# Altium schematic symbol library MSE450_G05_ASTEROIDS.SchLib: 3 symbols
Pins are listed as number, name and electrical type; pins without a type are passive.

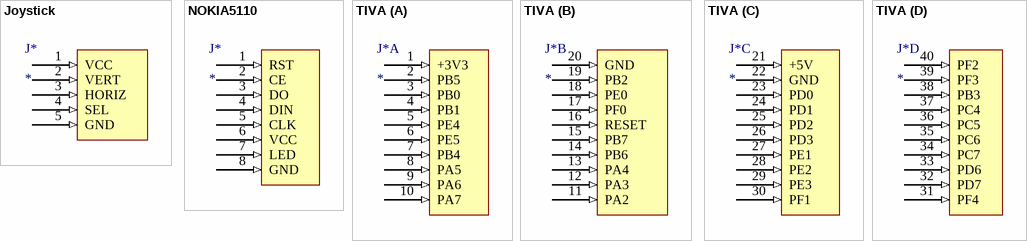
[diagram p0: symbols Joystick to TIVA]

## Joystick
designator J*
footprint joystick
pins: 1 VCC (in), 2 VERT (in), 3 HORIZ (in), 4 SEL (in), 5 GND (in)

## NOKIA5110
designator J*
footprint NOKIA5110
pins: 1 RST (in), 2 CE (in), 3 DO (in), 4 DIN (in), 5 CLK (in), 6 VCC (in), 7 LED (in), 8 GND (in)

## TIVA
designator J*
footprint TIVA
part A pins: 1 +3V3 (in), 2 PB5 (in), 3 PB0 (in), 4 PB1 (in), 5 PE4 (in), 6 PE5 (in), 7 PB4 (in), 8 PA5 (in), 9 PA6 (in), 10 PA7 (in)
part B pins: 11 PA2 (in), 12 PA3 (in), 13 PA4 (in), 14 PB6 (in), 15 PB7 (in), 16 RESET (in), 17 PF0 (in), 18 PE0 (in), 19 PB2 (in), 20 GND (in)
part C pins: 21 +5V (in), 22 GND (in), 23 PD0 (in), 24 PD1 (in), 25 PD2 (in), 26 PD3 (in), 27 PE1 (in), 28 PE2 (in), 29 PE3 (in), 30 PF1 (in)
part D pins: 31 PF4 (in), 32 PD7 (in), 33 PD6 (in), 34 PC7 (in), 35 PC6 (in), 36 PC5 (in), 37 PC4 (in), 38 PB3 (in), 39 PF3 (in), 40 PF2 (in)